# Altium integrated library WE-UNIT_rev15a.intlib: 12 symbols
Pins are listed as number, name and electrical type; pins without a type are passive.

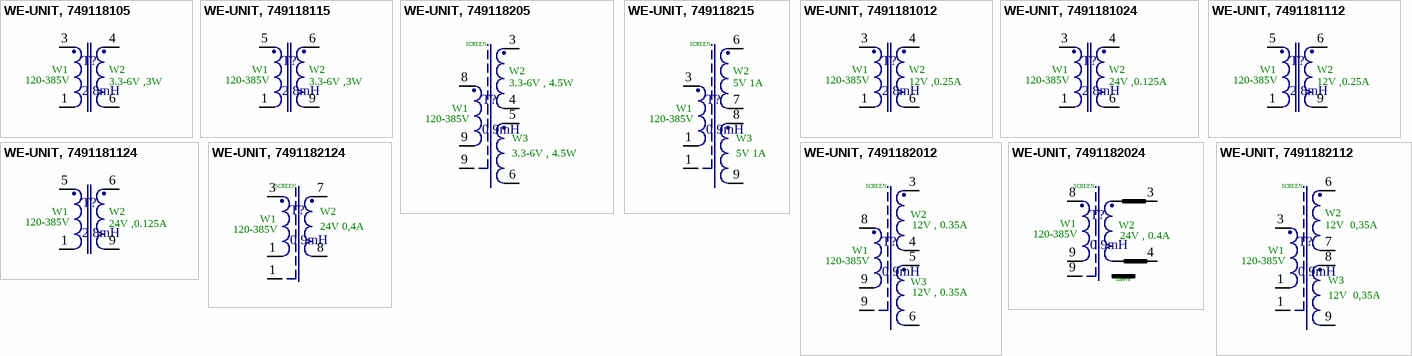
[diagram p0: symbols WE-UNIT, 749118105 to WE-UNIT, 7491182124]

## WE-UNIT, 749118105
designator T?, comment 2.8mH
Off-Line Transformer WE-UNIT , L=2.8mH; PartNo: 749118105; Manufacturer: Würth Elektronik eiSos GmbH; Turns Ratio: 18.9:1; Input Votage (AC): 85-265; Output voltage (DC): 5; Output Current (A): 0.6; Inductance: 2.8mH; ComponentLink1Description: Manufacturer; ComponentLink1URL: http://www.we-online.de; Created by: Otto Christin; Created Date: OCT 2013; ComponentLink2Description: Datasheet; ComponentLink2URL: http://www.we-online.de/katalog/media/pdf/749118105.pdf
footprint EE13/7/4-Vertical/(EF12.6) (THT, 6-Leads, Body 15 x11mm (max), Pitch 3.81mm)
pins: 1, 3, 4, 6
text: W1; W2; 120-385V; 3.3-6V ,3W

## WE-UNIT, 749118115
designator T?, comment 2.8mH
Off-Line Transformer WE-UNIT , L=2.8mH; PartNo: 749118115; Manufacturer: Würth Elektronik eiSos GmbH; Turns Ratio: 18.9:1; Input Voltage (AC): 85-265; Output Current (A): 0.6; Output Voltage (DC): 5; Inductance: 2.8mH; ComponentLink1Description: Manufacturer; ComponentLink1URL: http://www.we-online.de; Created by: Otto Christin; Created Date: OCT 2013; ComponentLink2Description: Datasheet; ComponentLink2URL: http://www.we-online.de/katalog/media/pdf/749118115.pdf
footprint EE13/7/4-Horizontal/(EF12.6) (THT, 9-Leads, Body 21.5x15mm (max), Pitch 2.72mm,)
pins: 1, 5, 6, 9
text: W1; W2; 120-385V; 3.3-6V ,3W

## WE-UNIT, 749118205
designator T?, comment 0.9mH
Off-Line Transformer WE-UNIT , L=0.9mH; PartNo: 749118205; Manufacturer: Würth Elektronik eiSos GmbH; Turns Ratio: 19:1:1; Input Voltage (AC): 85-265; Output Voltage (DC): 5; Output Current (A): 0.6; Inductance: 0.9mH; ComponentLink1Description: Manufacturer; ComponentLink1URL: http://www.we-online.de; Created by: Otto Christin; Created Date: OCT 2013; ComponentLink2Description: Datasheet; ComponentLink2URL: http://www.we-online.de/katalog/media/pdf/749118205.pdf
footprint EE16/7/4 (E16) (THT, 10-Leads, Body 18x16.5mm (max), Pitch 2.7mm)
pins: 3, 4, 5, 6, 8, 9, 9
text: SCREEN; W2; 3.3-6V , 4.5W; W1; 120-385V; W3

## WE-UNIT, 749118215
designator T?, comment 0.9mH
Off-Line Transformer WE-UNIT , L=0.9mH; PartNo: 749118215; Manufacturer: Würth Elektronik eiSos GmbH; Turns Ratio: 19:1:1; Input Voltage (AC): 85-265; Output Voltage (DC): 5; Output Current (A): 0.6; Inductance: 0.9mH; ComponentLink1Description: Manufacturer; ComponentLink1URL: http://www.we-online.de; Created by: Otto Christin; Created Date: OCT 2013; ComponentLink2Description: Datasheet; ComponentLink2URL: http://www.we-online.de/katalog/media/pdf/749118215.pdf
footprint EE16/8/5 (EF16) (THT, 9-Leads, Body 24.5x20.2mm (max), Pitch 2.7mm)
pins: 1, 1, 3, 6, 7, 8, 9
text: SCREEN; W2; 5V 1A; W1; 120-385V; W3

## WE-UNIT, 7491181012
designator T?, comment 2.8mH
Off-Line Transformer WE-UNIT , L=2.8mH; PartNo: 7491181012; Manufacturer: Würth Elektronik eiSos GmbH; Turns Ratio: 8.1:1; Input Voltage (AC): 85-265; Output Current (A): 0.25; Output Voltage (DC): 12; Inductance: 2.8mH; ComponentLink1Description: Manufacturer; ComponentLink1URL: http://www.we-online.de; Created by: Otto Christin; Created Date: OCT 2013; ComponentLink2Description: Datasheet; ComponentLink2URL: http://www.we-online.de/katalog/media/pdf/7491181012.pdf
footprint EE13/7/4-Vertical/(EF12.6) (THT, 6-Leads, Body 15 x11mm (max), Pitch 3.81mm)
pins: 1, 3, 4, 6
text: W1; W2; 120-385V; 12V ,0.25A

## WE-UNIT, 7491181024
designator T?, comment 2.8mH
Off-Line Transformer WE-UNIT , L=2.8mH; PartNo: 7491181024; Manufacturer: Würth Elektronik eiSos GmbH; Turns Ratio: 4:1; Input Voltage (AC): 85-265; Output Current (A): 0.125; Output Voltage (DC): 24; Inductance: 2.8mH; ComponentLink1Description: Manufacturer; ComponentLink1URL: http://www.we-online.de; Created by: Otto Christin; Created Date: OCT 2013; ComponentLink2Description: Datasheet; ComponentLink2URL: http://www.we-online.de/katalog/media/pdf/7491181024.pdf
footprint EE13/7/4-Vertical/(EF12.6) (THT, 6-Leads, Body 15 x11mm (max), Pitch 3.81mm)
pins: 1, 3, 4, 6
text: W1; W2; 120-385V; 24V ,0.125A

## WE-UNIT, 7491181112
designator T?, comment 2.8mH
Off-Line Transformer WE-UNIT , L=2.8mH; PartNo: 7491181112; Manufacturer: Würth Elektronik eiSos GmbH; Turns Ratio: 8.1:1; Output current (A): 0.25; Output Voltage (DC): 12; Input Voltage (AC): 85-265; Inductance: 2.8mH; ComponentLink1Description: Manufacturer; ComponentLink1URL: http://www.we-online.de; Created by: Otto Christin; Created Date: OCT 2013; ComponentLink2Description: Datasheet; ComponentLink2URL: http://www.we-online.de/katalog/media/pdf/7491181112.pdf
footprint EE13/7/4-Horizontal/(EF12.6) (THT, 9-Leads, Body 21.5x15mm (max), Pitch 2.72mm,)
pins: 1, 5, 6, 9
text: W1; W2; 120-385V; 12V ,0.25A

## WE-UNIT, 7491181124
designator T?, comment 2.8mH
Off-Line Transformer WE-UNIT , L=2.8mH; PartNo: 7491181124; Manufacturer: Würth Elektronik eiSos GmbH; Turns Ratio: 4:1; Output Voltage (DC): 24; Output Current: 0.125; Input Voltage (AC): 85-265; Inductance: 2.8mH; ComponentLink1Description: Manufacturer; ComponentLink1URL: http://www.we-online.de; Created by: Otto Christin; Created Date: OCT 2013; ComponentLink2Description: Datasheet; ComponentLink2URL: http://www.we-online.de/katalog/media/pdf/7491181124.pdf
footprint EE13/7/4-Horizontal/(EF12.6) (THT, 9-Leads, Body 21.5x15mm (max), Pitch 2.72mm,)
pins: 1, 5, 6, 9
text: W1; W2; 120-385V; 24V ,0.125A

## WE-UNIT, 7491182012
designator T?, comment 0.9mH
Off-Line Transformer WE-UNIT , L=0.9mH; PartNo: 7491182012; Manufacturer: Würth Elektronik eiSos GmbH; Turns Ratio: 9.5:1:1; Input Voltage (AC): 85-265; Output Voltage (DC): 12; Output Current (A): 0.6; Inductance: 0.9mH; ComponentLink1Description: Manufacturer; ComponentLink1URL: http://www.we-online.de; Created by: Otto Christin; Created Date: OCT 2013; ComponentLink2Description: Datasheet; ComponentLink2URL: http://www.we-online.de/katalog/media/pdf/7491182012.pdf
footprint EE16/7/4 (E16) (THT, 10-Leads, Body 18x16.5mm (max), Pitch 2.7mm)
pins: 3, 4, 5, 6, 8, 9, 9
text: SCREEN; W2; 12V , 0.35A; W1; 120-385V; W3

## WE-UNIT, 7491182024
designator T?, comment 0.9mH
Off-Line Transformer WE-UNIT , L=0.9mH; PartNo: 7491182024; Manufacturer: Würth Elektronik eiSos GmbH; Turns Ratio: 4.4:1; Output Current (A): 0.125; Output Voltage (DC): 24; Input Voltage (AC): 85-265; Inductance: 0.9mH; ComponentLink1Description: Manufacturer; ComponentLink1URL: http://www.we-online.de; Created by: Otto Christin; Created Date: OCT 2013; ComponentLink2Description: Datasheet; ComponentLink2URL: http://www.we-online.de/katalog/media/pdf/7491182024.pdf
footprint EE16/7/4 (E16) (THT, 10-Leads, Body 18x16.5mm (max), Pitch 2.7mm)
pins: 3, 4, 8, 9, 9
text: SCREEN; W1; W2; 120-385V; 24V , 0.4A; Sleeve

## WE-UNIT, 7491182112
designator T?, comment 0.9mH
Off-Line Transformer WE-UNIT , L=0.9mH; PartNo: 7491182112; Manufacturer: Würth Elektronik eiSos GmbH; Turns Ratio: 9.5:1; Output Current (A): 0.25; Output Voltage(DC): 12; Input Voltage (AC): 85-265; Inductance: 0.9mH; ComponentLink1Description: Manufacturer; ComponentLink1URL: http://www.we-online.de; Created by: Otto Christin; Created Date: OCT 2013; ComponentLink2Description: Datasheet; ComponentLink2URL: http://www.we-online.de/katalog/media/pdf/7491182112.pdf
footprint EE16/8/5 (EF16) (THT, 9-Leads, Body 24.5x20.2mm (max), Pitch 2.7mm)
pins: 1, 1, 3, 6, 7, 8, 9
text: SCREEN; W2; 12V  0,35A; W1; 120-385V; W3

## WE-UNIT, 7491182124
designator T?, comment 0.9mH
Off-Line Transformer WE-UNIT , L=0.9mH; PartNo: 7491182124; Manufacturer: Würth Elektronik eiSos GmbH; Turns Ratio: 4.4:1; Input Voltage (AC): 85-265; Output current (A): 0.125; Output Voltage (DC): 24; Inductance: 0.9mH; ComponentLink1Description: Manufacturer; ComponentLink1URL: http://www.we-online.de; Created by: Otto Christin; Created Date: OCT 2013; ComponentLink2Description: Datasheet; ComponentLink2URL: http://www.we-online.de/katalog/media/pdf/7491182124.pdf
footprint EE16/8/5 (EF16) (THT, 9-Leads, Body 24.5x20.2mm (max), Pitch 2.7mm)
pins: 1, 1, 3, 7, 8
text: SCREEN; W2; W1; 120-385V; 24V 0,4A